# Altium schematic symbol library WE-HCFA.SchLib: 6 symbols
Pins are listed as number, name and electrical type; pins without a type are passive.

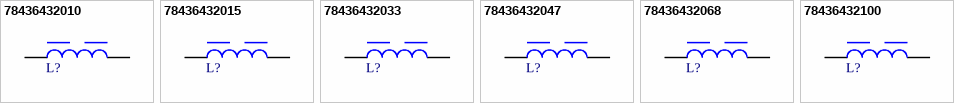
[diagram p0: symbols 78436432010 to 78436432100]

## 78436432010
designator L?, comment 1µH, 47A  (value not drawn)
WE-HCFA High Current Flat Wire Inductor, size 2818, 1µH, 47A, 0.6mΩ; Manufacturer Part Number: 78436432010; Manufacturer: Wurth Elektronik; Case/Size Code: 2818; Saturation Current: 81A; Self Resonant Frequency: 45MHz; Category: Single Coil Power Inductors; Match Code: WE-HCFA; ComponentLink1Description: Website Link; ComponentLink1URL: https://www.we-online.com/redexpert/article/78436432010?ad; ComponentLink2Description: Datasheet Link; ComponentLink2URL: https://www.we-online.com/redexpert/spec/78436432010?ad; Mount: Through Hole; Operating Temperature Max: 150°C; Operating Temperature Min: -40°C; Packaging: Tray; Length: 27.5mm; Width: 27.5mm; Height: 17mm; Automotive: Yes; DC Resistance: 0.6mΩ; Inductance: 1µH; Rated Current: 47A
footprint WE-HCFA_2818
simulation model 2818_78436432010_1u
pins: 1, 2

## 78436432015
designator L?, comment 1.5µH, 47A  (value not drawn)
WE-HCFA High Current Flat Wire Inductor, size 2818, 1.5µH, 47A, 0.6mΩ; Manufacturer Part Number: 78436432015; Manufacturer: Wurth Elektronik; Case/Size Code: 2818; Saturation Current: 53A; Self Resonant Frequency: 34MHz; Category: Single Coil Power Inductors; Match Code: WE-HCFA; ComponentLink1Description: Website Link; ComponentLink1URL: https://www.we-online.com/redexpert/article/78436432015?ad; ComponentLink2Description: Datasheet Link; ComponentLink2URL: https://www.we-online.com/redexpert/spec/78436432015?ad; Mount: Through Hole; Operating Temperature Max: 150°C; Operating Temperature Min: -40°C; Packaging: Tray; Length: 27.5mm; Width: 27.5mm; Height: 17mm; Automotive: Yes; DC Resistance: 0.6mΩ; Inductance: 1.5µH; Rated Current: 47A
footprint WE-HCFA_2818
simulation model 2818_78436432015_1.5u
pins: 1, 2

## 78436432033
designator L?, comment 3.3µH, 38A  (value not drawn)
WE-HCFA High Current Flat Wire Inductor, size 2818, 3.3µH, 38A, 1.1mΩ; Manufacturer Part Number: 78436432033; Manufacturer: Wurth Elektronik; Case/Size Code: 2818; Saturation Current: 50A; Self Resonant Frequency: 34MHz; Category: Single Coil Power Inductors; Match Code: WE-HCFA; ComponentLink1Description: Website Link; ComponentLink1URL: https://www.we-online.com/redexpert/article/78436432033?ad; ComponentLink2Description: Datasheet Link; ComponentLink2URL: https://www.we-online.com/redexpert/spec/78436432033?ad; Mount: Through Hole; Operating Temperature Max: 150°C; Operating Temperature Min: -40°C; Packaging: Tray; Length: 27.5mm; Width: 27.5mm; Height: 17mm; Automotive: Yes; DC Resistance: 1.1mΩ; Inductance: 3.3µH; Rated Current: 38A
footprint WE-HCFA_2818
simulation model 2818_78436432033_3.3u
pins: 1, 2

## 78436432047
designator L?, comment 4.7µH, 38A  (value not drawn)
WE-HCFA High Current Flat Wire Inductor, size 2818, 4.7µH, 38A, 1.1mΩ; Manufacturer Part Number: 78436432047; Manufacturer: Wurth Elektronik; Case/Size Code: 2818; Saturation Current: 33A; Self Resonant Frequency: 28MHz; Category: Single Coil Power Inductors; Match Code: WE-HCFA; ComponentLink1Description: Website Link; ComponentLink1URL: https://www.we-online.com/redexpert/article/78436432047?ad; ComponentLink2Description: Datasheet Link; ComponentLink2URL: https://www.we-online.com/redexpert/spec/78436432047?ad; Mount: Through Hole; Operating Temperature Max: 150°C; Operating Temperature Min: -40°C; Packaging: Tray; Length: 27.5mm; Width: 27.5mm; Height: 17mm; Automotive: Yes; DC Resistance: 1.1mΩ; Inductance: 4.7µH; Rated Current: 38A
footprint WE-HCFA_2818
simulation model 2818_78436432047_4.7u
pins: 1, 2

## 78436432068
designator L?, comment 6.8µH, 38A  (value not drawn)
WE-HCFA High Current Flat Wire Inductor, size 2818, 6.8µH, 38A, 1.1mΩ; Manufacturer Part Number: 78436432068; Manufacturer: Wurth Elektronik; Case/Size Code: 2818; Saturation Current: 24A; Self Resonant Frequency: 20MHz; Category: Single Coil Power Inductors; Match Code: WE-HCFA; ComponentLink1Description: Website Link; ComponentLink1URL: https://www.we-online.com/redexpert/article/78436432068?ad; ComponentLink2Description: Datasheet Link; ComponentLink2URL: https://www.we-online.com/redexpert/spec/78436432068?ad; Mount: Through Hole; Operating Temperature Max: 150°C; Operating Temperature Min: -40°C; Packaging: Tray; Length: 27.5mm; Width: 27.5mm; Height: 17mm; Automotive: Yes; DC Resistance: 1.1mΩ; Inductance: 6.8µH; Rated Current: 38A
footprint WE-HCFA_2818
simulation model 2818_78436432068_6.8u
pins: 1, 2

## 78436432100
designator L?, comment 10µH, 38A  (value not drawn)
WE-HCFA High Current Flat Wire Inductor, size 2818, 10µH, 38A, 1.1mΩ; Manufacturer Part Number: 78436432100; Manufacturer: Wurth Elektronik; Case/Size Code: 2818; Saturation Current: 14A; Self Resonant Frequency: 18MHz; Category: Single Coil Power Inductors; Match Code: WE-HCFA; ComponentLink1Description: Website Link; ComponentLink1URL: https://www.we-online.com/redexpert/article/78436432100?ad; ComponentLink2Description: Datasheet Link; ComponentLink2URL: https://www.we-online.com/redexpert/spec/78436432100?ad; Mount: Through Hole; Operating Temperature Max: 150°C; Operating Temperature Min: -40°C; Packaging: Tray; Length: 27.5mm; Width: 27.5mm; Height: 17mm; Automotive: Yes; DC Resistance: 1.1mΩ; Inductance: 10µH; Rated Current: 38A
footprint WE-HCFA_2818
simulation model 2818_78436432100_10u
pins: 1, 2